# Altium footprint library 322014030000.PcbLib: 1 footprints
Each footprint in its own frame and in the unit in brackets; x right, y up, seen from the top. Pads: shape width x height; smd on the part's side, far side on the other; paste and mask are expansions set on the pad; w line width, h text height; cw(c..) or ccw(c..) is an arc to the next point about the centre after c.
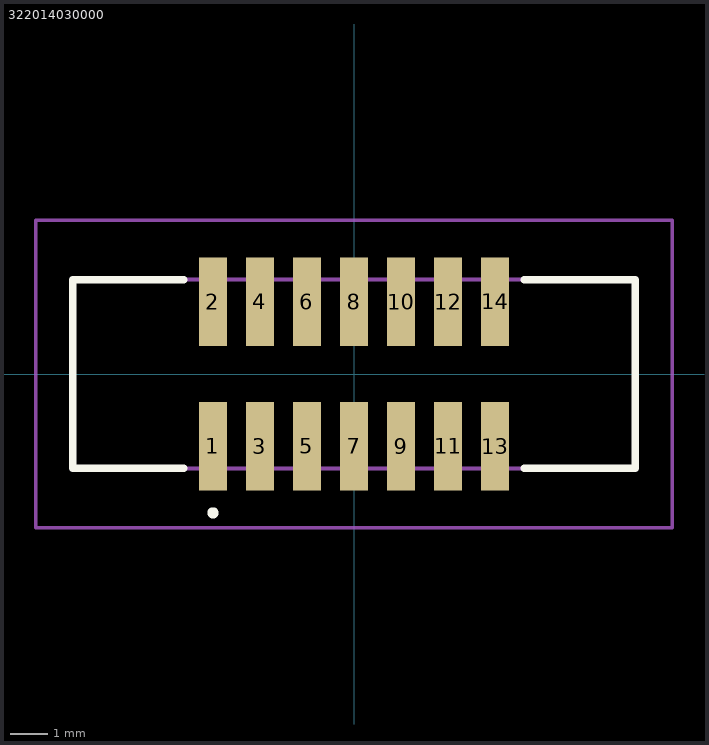
[diagram p0: the footprint, top view; thin cyan lines are the x and y axes]

## 322014030000 [mm]
pads (14):
  rect 0.76x2.4 smd: 1(-3.81,-1.95) 2(-3.81,1.95) 3(-2.54,-1.95) 4(-2.54,1.95) 5(-1.27,-1.95) 6(-1.27,1.95) 7(0,-1.95) 8(0,1.95) 9(1.27,-1.95) 10(1.27,1.95) 11(2.54,-1.95) 12(2.54,1.95) 13(3.81,-1.95) 14(3.81,1.95)
Top Overlay:
  lines w0.2: -7.6,-2.55 -4.6,-2.55 ; -7.6,-2.55 -4.6,-2.55 ; -7.6,-2.55 -7.6,-2.55 ; -7.595,-2.55 -7.595,2.55 ; -7.595,-2.55 -7.595,-2.55 ; -7.595,-2.55 -7.595,2.55 ; -7.595,2.55 -4.6,2.55 ; -7.595,2.55 -7.595,2.55 ; -7.595,2.55 -4.6,2.55 ; -7.595,2.55 -7.595,2.55 ; -4.6,-2.55 -4.6,-2.55 ; -4.6,2.55 -4.6,2.55 ; -3.81,-3.8 -3.81,-3.8 ; -3.81,-3.8 ccw(c-3.81,-3.75) -3.81,-3.7 ; -3.81,-3.8 cw(c-3.81,-3.75) -3.81,-3.7 ; -3.81,-3.8 -3.81,-3.8 ; -3.81,-3.8 ccw(c-3.81,-3.75) -3.81,-3.7 ; -3.81,-3.7 -3.81,-3.7 ; 4.6,-2.55 7.595,-2.55 ; 4.6,-2.55 7.595,-2.55 ; 4.6,-2.55 4.6,-2.55 ; 4.6,2.55 7.595,2.55 ; 4.6,2.55 4.6,2.55 ; 4.6,2.55 7.595,2.55 ; 7.595,-2.55 7.595,-2.55 ; 7.595,-2.55 7.595,-2.55 ; 7.595,-2.55 7.595,2.55 ; 7.595,-2.55 7.595,2.55 ; 7.595,2.55 7.595,2.55 ; 7.595,2.55 7.595,2.55
Mechanical 15:
  lines w0.1: -7.595,-2.55 7.595,-2.55 7.595,2.55 -7.595,2.55 -7.595,-2.55
Mechanical 20:
  lines w0.1: -8.595,-4.15 8.595,-4.15 8.595,4.15 -8.595,4.15 -8.595,-4.15
3D body "3220-14-0300-00.stp": height 5.8, standoff -4.65, extent -10,-3.376 10,3.376